# EAGLE library part TLV320AIC34 (library GTA04b7)
TLV320AIC34 FOUR-CHANNEL, LOW-POWER AUDIO CODEC FOR PORTABLE AUDIO/TELEPHONY
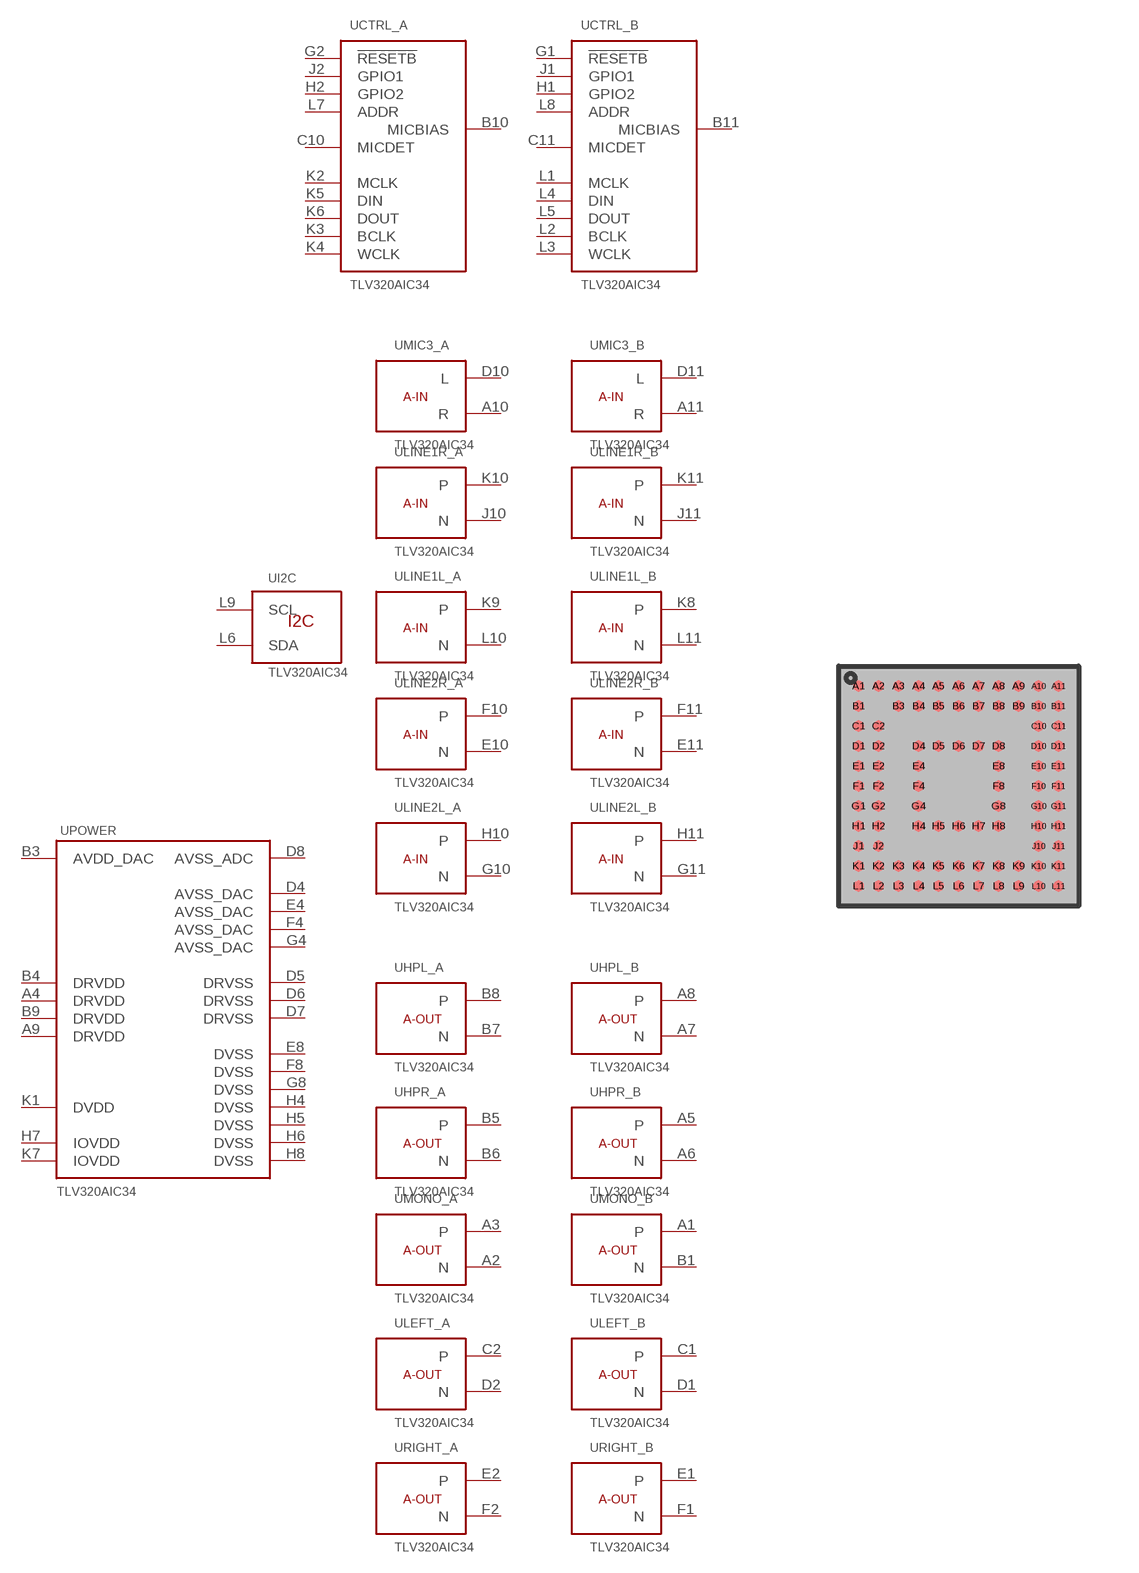
[diagram p42: symbol with the pads of S-PBGA-N87-0.5; footprint S-PBGA-N87-0.5]

Designator prefix -; gates CTRL_A=TLV320AIC34-CTRL CTRL_B=TLV320AIC34-CTRL HPL_A=IF-A-OUT HPL_B=IF-A-OUT HPR_A=IF-A-OUT HPR_B=IF-A-OUT I2C=IF-I2C LEFT_A=IF-A-OUT LEFT_B=IF-A-OUT LINE1L_A=IF-A-IN LINE1L_B=IF-A-IN LINE1R_A=IF-A-IN LINE1R_B=IF-A-IN LINE2L_A=IF-A-IN LINE2L_B=IF-A-IN LINE2R_A=IF-A-IN LINE2R_B=IF-A-IN MIC3_A=IF-A2-IN MIC3_B=IF-A2-IN MONO_A=IF-A-OUT MONO_B=IF-A-OUT POWER=TLV320AIC34-POWER RIGHT_A=IF-A-OUT RIGHT_B=IF-A-OUT

## TLV320AIC34ZAS  [S-PBGA-N87-0.5]
A1  MONO_B:P  pas
A2  MONO_A:N  pas
A3  MONO_A:P  pas
A4  POWER:DRVDD  pwr
A5  HPR_B:P  pas
A6  HPR_B:N  pas
A7  HPL_B:N  pas
A8  HPL_B:P  pas
A9  POWER:DRVDD  pwr
A10  MIC3_A:R  pas
A11  MIC3_B:R  pas
B1  MONO_B:N  pas
B3  POWER:AVDD_DAC  pwr
B4  POWER:DRVDD  pwr
B5  HPR_A:P  pas
B6  HPR_A:N  pas
B7  HPL_A:N  pas
B8  HPL_A:P  pas
B9  POWER:DRVDD  pwr
B10  CTRL_A:MICBIAS  out
B11  CTRL_B:MICBIAS  out
C1  LEFT_B:P  pas
C2  LEFT_A:P  pas
C10  CTRL_A:MICDET  in
C11  CTRL_B:MICDET  in
D1  LEFT_B:N  pas
D2  LEFT_A:N  pas
D4  POWER:AVSS_DAC  pwr
D5  POWER:DRVSS  pwr
D6  POWER:DRVSS  pwr
D7  POWER:DRVSS  pwr
D8  POWER:AVSS_ADC  pwr
D10  MIC3_A:L  pas
D11  MIC3_B:L  pas
E1  RIGHT_B:P  pas
E2  RIGHT_A:P  pas
E4  POWER:AVSS_DAC  pwr
E8  POWER:DVSS  pwr
E10  LINE2R_A:N  pas
E11  LINE2R_B:N  pas
F1  RIGHT_B:N  pas
F2  RIGHT_A:N  pas
F4  POWER:AVSS_DAC  pwr
F8  POWER:DVSS  pwr
F10  LINE2R_A:P  pas
F11  LINE2R_B:P  pas
G1  CTRL_B:!RESETB  in
G2  CTRL_A:!RESETB  in
G4  POWER:AVSS_DAC  pwr
G8  POWER:DVSS  pwr
G10  LINE2L_A:N  pas
G11  LINE2L_B:N  pas
H1  CTRL_B:GPIO2
H2  CTRL_A:GPIO2
H4  POWER:DVSS  pwr
H5  POWER:DVSS  pwr
H6  POWER:DVSS  pwr
H7  POWER:IOVDD  pwr
H8  POWER:DVSS  pwr
H10  LINE2L_A:P  pas
H11  LINE2L_B:P  pas
J1  CTRL_B:GPIO1
J2  CTRL_A:GPIO1
J10  LINE1R_A:N  pas
J11  LINE1R_B:N  pas
K1  POWER:DVDD  pwr
K2  CTRL_A:MCLK  in
K3  CTRL_A:BCLK
K4  CTRL_A:WCLK
K5  CTRL_A:DIN  in
K6  CTRL_A:DOUT  out
K7  POWER:IOVDD  pwr
K8  LINE1L_B:P  pas
K9  LINE1L_A:P  pas
K10  LINE1R_A:P  pas
K11  LINE1R_B:P  pas
L1  CTRL_B:MCLK  in
L2  CTRL_B:BCLK
L3  CTRL_B:WCLK
L4  CTRL_B:DIN  in
L5  CTRL_B:DOUT  out
L6  I2C:SDA
L7  CTRL_A:ADDR  in
L8  CTRL_B:ADDR  in
L9  I2C:SCL
L10  LINE1L_A:N  pas
L11  LINE1L_B:N  pas

## Footprint S-PBGA-N87-0.5 (pad centres in mm)
S-PBGA-N87 (ZAS) in 0.5mm pitch; TLV320AIC34
smd 0.275 x 0.275: A1 -2.5,2.5; A2 -2,2.5; A3 -1.5,2.5; A4 -1,2.5; A5 -0.5,2.5; A6 0,2.5; A7 0.5,2.5; A8 1,2.5; A9 1.5,2.5; A10 2,2.5; A11 2.5,2.5; B1 -2.5,2; B3 -1.5,2; B4 -1,2; B5 -0.5,2; B6 0,2; B7 0.5,2; B8 1,2; B9 1.5,2; B10 2,2; B11 2.5,2; C1 -2.5,1.5; C2 -2,1.5; C10 2,1.5; C11 2.5,1.5; D1 -2.5,1; D2 -2,1; D4 -1,1; D5 -0.5,1; D6 0,1; D7 0.5,1; D8 1,1; D10 2,1; D11 2.5,1; E1 -2.5,0.5; E2 -2,0.5; E4 -1,0.5; E8 1,0.5; E10 2,0.5; E11 2.5,0.5; F1 -2.5,0; F2 -2,0; F4 -1,0; F8 1,0; F10 2,0; F11 2.5,0; G1 -2.5,-0.5; G2 -2,-0.5; G4 -1,-0.5; G8 1,-0.5; G10 2,-0.5; G11 2.5,-0.5; H1 -2.5,-1; H2 -2,-1; H4 -1,-1; H5 -0.5,-1; H6 0,-1; H7 0.5,-1; H8 1,-1; H10 2,-1; H11 2.5,-1; J1 -2.5,-1.5; J2 -2,-1.5; J10 2,-1.5; J11 2.5,-1.5; K1 -2.5,-2; K2 -2,-2; K3 -1.5,-2; K4 -1,-2; K5 -0.5,-2; K6 0,-2; K7 0.5,-2; K8 1,-2; K9 1.5,-2; K10 2,-2; K11 2.5,-2; L1 -2.5,-2.5; L2 -2,-2.5; L3 -1.5,-2.5; L4 -1,-2.5; L5 -0.5,-2.5; L6 0,-2.5; L7 0.5,-2.5; L8 1,-2.5; L9 1.5,-2.5; L10 2,-2.5; L11 2.5,-2.5